# EAGLE library part MC33063 (library Rohit_Libs)
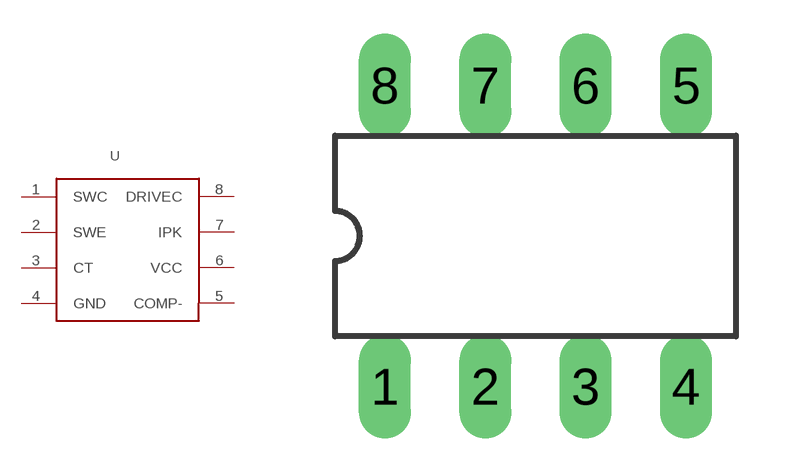
[diagram p10: symbol with the pads of DIL8; footprint DIL8]

Designator prefix -

## MC33063  [DIL8]
1  SWC  pas
2  SWE  pas
3  CT  pas
4  GND  pas
5  COMP-  pas
6  VCC  pas
7  IPK  pas
8  DRIVEC  pas

## Footprint DIL8 (pad centres in mm)
Dual In Line package type P
drill 0.813 long: 1 -3.81,-3.81; 2 -1.27,-3.81; 3 1.27,-3.81; 4 3.81,-3.81; 5 3.81,3.81; 6 1.27,3.81; 7 -1.27,3.81; 8 -3.81,3.81